# Altium integrated library Integrated_Library1.IntLib: 16 symbols
Pins are listed as number, name and electrical type; pins without a type are passive.

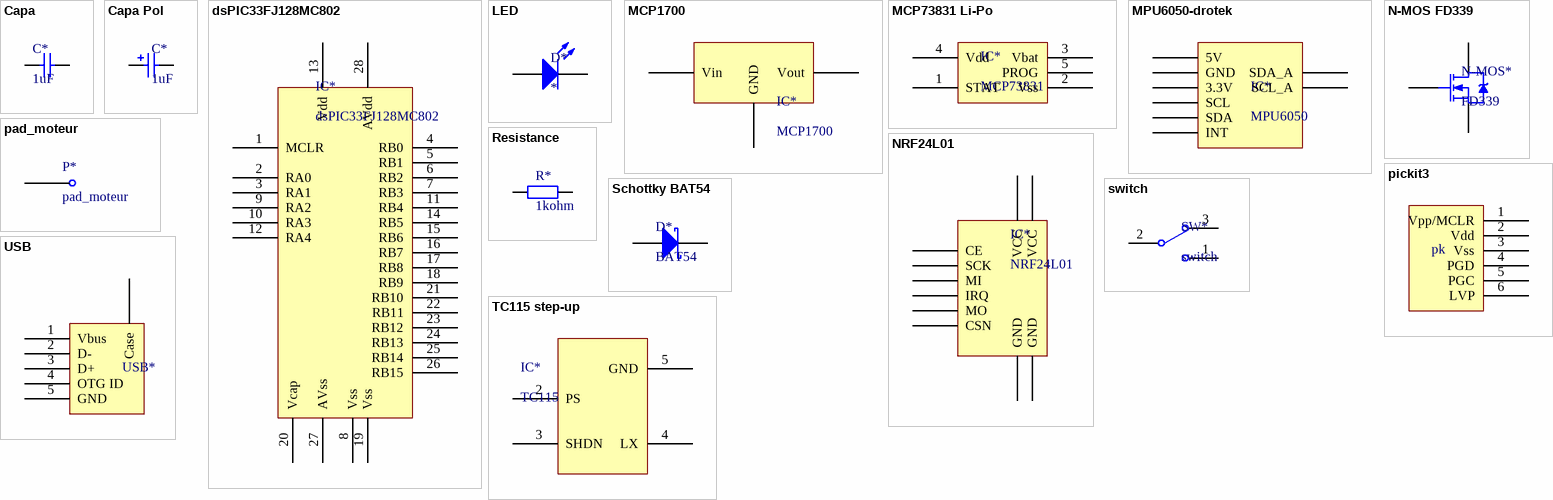
[diagram p0: symbols Capa to USB]

## Capa
designator C*, comment 1uF
footprint cms805
footprint Capa_plastique
footprint Capa_ceramique1
pins: 1, 2

## Capa Pol
designator C*, comment 1uF
footprint Capa_pol1
footprint Capa_Pol2
pins: 1, 2

## dsPIC33FJ128MC802
designator IC*
footprint SOIC28(300mil)
pins: 1 MCLR, 2 RA0, 3 RA1, 4 RB0, 5 RB1, 6 RB2, 7 RB3, 8 Vss, 9 RA2, 10 RA3, 11 RB4, 12 RA4, 13 Vdd, 14 RB5, 15 RB6, 16 RB7, 17 RB8, 18 RB9, 19 Vss, 20 Vcap, 21 RB10, 22 RB11, 23 RB12, 24 RB13, 25 RB14, 26 RB15, 27 AVss, 28 AVdd

## LED
designator D*
footprint cms1206
footprint Led_5mm
pins: 1 A, 2 K

## MCP1700
designator IC*
footprint SOT89
pins: 1 GND, 2 Vin, 3 Vout

## MCP73831 Li-Po
designator IC*, comment MCP73831
footprint SOT23-5
pins: 1 STAT, 2 Vss, 3 Vbat, 4 Vdd, 5 PROG

## MPU6050-drotek
designator IC*, comment MPU6050
footprint MPU6050_drotek
pins: 1 5V, 2 GND, 3 3.3V, 4 SCL, 5 SDA, 6 INT, 7 SDA_A, 8 SCL_A

## N-MOS FD339
designator N-MOS*, comment FD339
footprint SOT23
pins: 1 G, 2 D, 3 S

## NRF24L01
designator IC*
footprint NRF24L01
pins: 1 VCC, 2 CE, 3 SCK, 4 MI, 5 GND, 6 GND, 7 IRQ, 8 MO, 9 CSN, 10 VCC

## pad_moteur
designator P*
footprint PAD
pins: 1

## pickit3
designator pk
footprint pickit3
pins: 1 Vpp/MCLR, 2 Vdd, 3 Vss, 4 PGD, 5 PGC, 6 LVP

## Resistance
designator R*, comment 1kohm
footprint cms805
footprint traversant 1/4W
pins: 1, 2

## Schottky BAT54
designator D*, comment BAT54
footprint SOT23
pins: 1 A, 2 K

## switch
designator SW*
footprint inverseur
pins: 1, 2, 3

## TC115 step-up
designator IC*, comment TC115
footprint SOT89-5
pins: 1 NC hidden, 2 PS, 3 SHDN, 4 LX, 5 GND

## USB
designator USB*
footprint USB_con
pins: 0 Case, 1 Vbus, 2 D-, 3 D+, 4 OTG ID, 5 GND